# Altium schematic symbol library snes.SchLib: 1 symbol
Pins are listed as number, name and electrical type; pins without a type are passive.

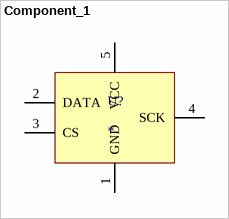
[diagram p0: symbol Component_1]

## Component_1
designator U?
snes  controller
footprint snescontroller (snes controller)
pins: 1 GND, 2 DATA, 3 CS, 4 SCK, 5 VCC